# Altium footprint library SOIC127P1032X265-16N (1).PcbLib: 1 footprints
Each footprint in its own frame and in the unit in brackets; x right, y up, seen from the top. Pads: shape width x height; smd on the part's side, far side on the other; paste and mask are expansions set on the pad; w line width, h text height; cw(c..) or ccw(c..) is an arc to the next point about the centre after c.
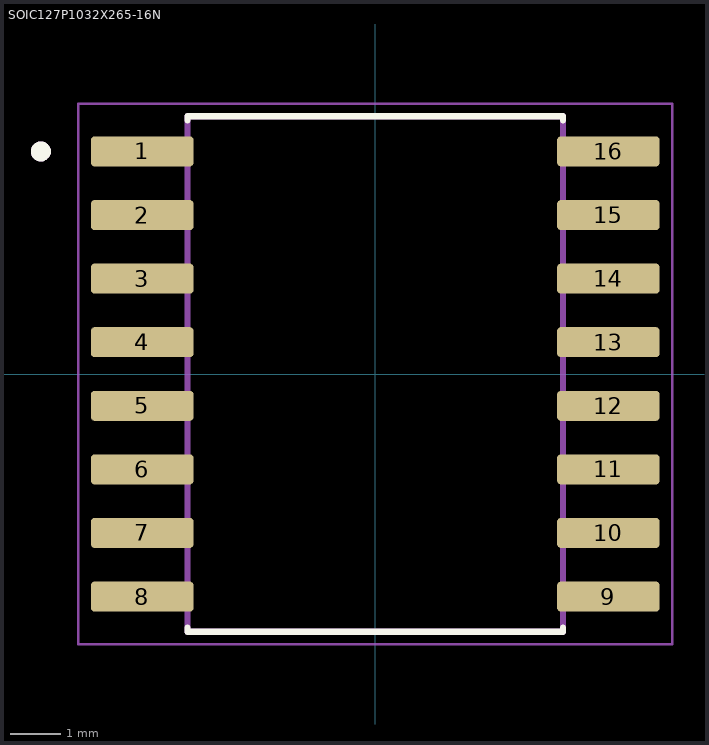
[diagram p0: the footprint, top view; thin cyan lines are the x and y axes]

## SOIC127P1032X265-16N [mm]
pads (16):
  rrect25% 2.05x0.6 smd paste+0 mask+0.102: 1(-4.655,4.445) 2(-4.655,3.175) 3(-4.655,1.905) 4(-4.655,0.635) 5(-4.655,-0.635) 6(-4.655,-1.905) 7(-4.655,-3.175) 8(-4.655,-4.445) 9(4.655,-4.445) 10(4.655,-3.175) 11(4.655,-1.905) 12(4.655,-0.635) 13(4.655,0.635) 14(4.655,1.905) 15(4.655,3.175) 16(4.655,4.445)
Top Overlay:
  circle w0.2: c-6.68,4.445 r0.1
  lines w0.127: -3.75,-5.065 -3.75,-5.15 3.75,-5.15 3.75,-5.065 ; -3.75,5.065 -3.75,5.15 3.75,5.15 3.75,5.065
Assembly Top:
  circle w0.2: c-6.68,4.445 r0.1
  lines w0.127: -3.75,-5.15 3.75,-5.15 3.75,5.15 -3.75,5.15 -3.75,-5.15
Courtyard Top:
  lines w0.05: -5.93,-5.4 -5.93,5.4 5.93,5.4 5.93,-5.4 -5.93,-5.4
3D body "ADUM1412ARWZ.STEP": height 2.65, standoff 0, extent -5.289,-5.15 5.036,5.15